# Altium footprint library PLCC-2.PcbLib: 1 footprints
Each footprint in its own frame and in the unit in brackets; x right, y up, seen from the top. Pads: shape width x height; smd on the part's side, far side on the other; paste and mask are expansions set on the pad; w line width, h text height; cw(c..) or ccw(c..) is an arc to the next point about the centre after c.
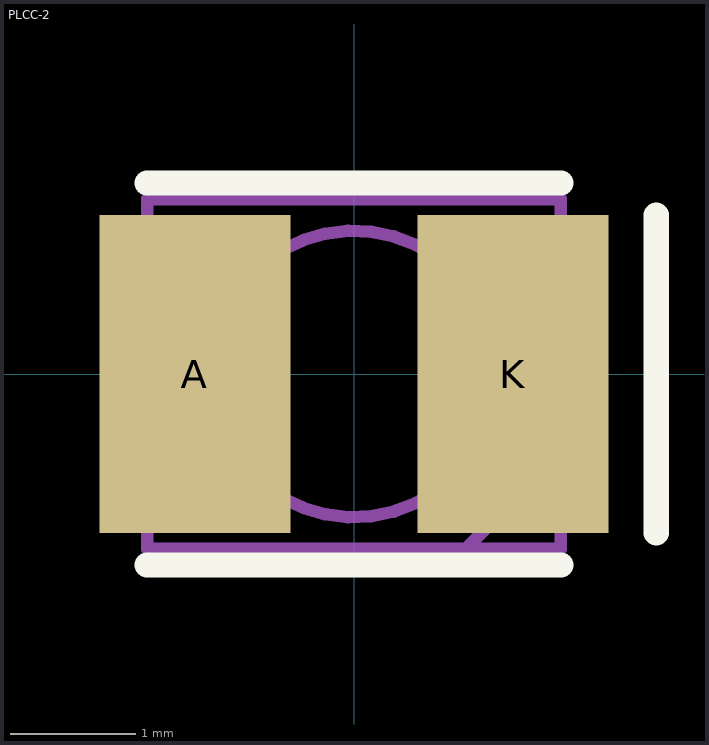
[diagram p0: the footprint, top view; thin cyan lines are the x and y axes]

## PLCC-2 [mil]
height 78.74
pads (2):
  rect 60x100 smd: A(-50,0) K(50,0)
Top Overlay:
  lines w7.87: -65,-60 65,-60 ; -65,60 65,60 ; 95,-50 95,50
Mechanical 13:
  circle w3.94: c0,0 r45
  lines w3.94: 35,-55 65,-25 ; -65,-55 -65,55 65,55 65,-55 -65,-55
3D body: height 78.74, standoff 0, extent -64.98,-54.98 64.98,54.98
3D body: height 78.74, standoff 0, extent -45.37,-45.37 45.37,45.37